# EAGLE library part ATXMEGA16A4U (library ihpcb-xmega)
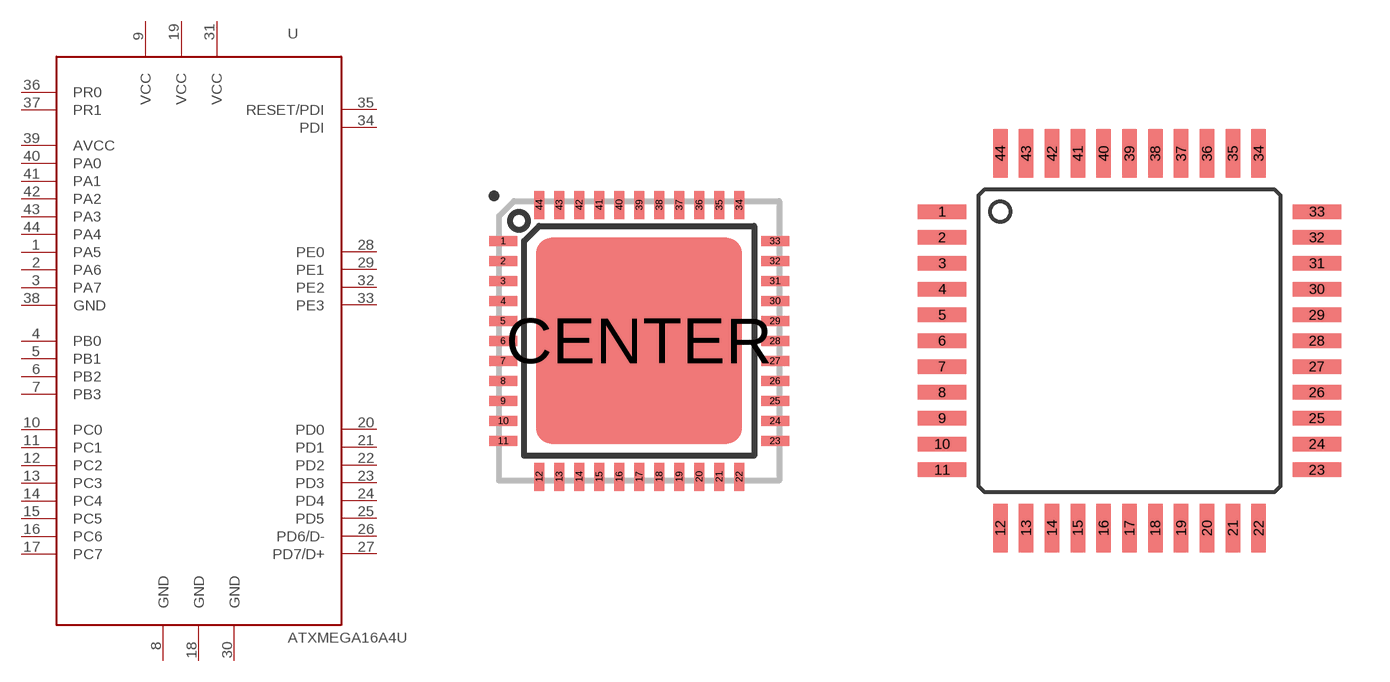
[diagram p0: symbol with the pads of VQFN-44; footprints VQFN-44, TQFP-44]

Designator prefix U

## ATXMEGA16A4U-MU  [VQFN-44]
1  PA5
2  PA6
3  PA7
4  PB0
5  PB1
6  PB2
7  PB3
8  GND
9  VCC
10  PC0
11  PC1
12  PC2
13  PC3
14  PC4
15  PC5
16  PC6
17  PC7
18  GND
19  VCC
20  PD0
21  PD1
22  PD2
23  PD3
24  PD4
25  PD5
26  PD6/D-
27  PD7/D+
28  PE0
29  PE1
30  GND
31  VCC
32  PE2
33  PE3
34  PDI
35  RESET/PDI
36  PR0
37  PR1
38  GND
39  AVCC
40  PA0
41  PA1
42  PA2
43  PA3
44  PA4

## ATXMEGA16A4U-AU  [TQFP-44]
Pads as for VQFN-44

## Footprint VQFN-44 (pad centres in mm)
smd 0.7 x 0.25: 1 -3.4,2.5; 2 -3.4,2; 3 -3.4,1.5; 4 -3.4,1; 5 -3.4,0.5; 6 -3.4,0; 7 -3.4,-0.5; 8 -3.4,-1; 9 -3.4,-1.5; 10 -3.4,-2; 11 -3.4,-2.5; 23 3.4,-2.5; 24 3.4,-2; 25 3.4,-1.5; 26 3.4,-1; 27 3.4,-0.5; 28 3.4,0; 29 3.4,0.5; 30 3.4,1; 31 3.4,1.5; 32 3.4,2; 33 3.4,2.5
smd 0.25 x 0.7: 12 -2.5,-3.4; 13 -2,-3.4; 14 -1.5,-3.4; 15 -1,-3.4; 16 -0.5,-3.4; 17 0,-3.4; 18 0.5,-3.4; 19 1,-3.4; 20 1.5,-3.4; 21 2,-3.4; 22 2.5,-3.4; 34 2.5,3.4; 35 2,3.4; 36 1.5,3.4; 37 1,3.4; 38 0.5,3.4; 39 0,3.4; 40 -0.5,3.4; 41 -1,3.4; 42 -1.5,3.4; 43 -2,3.4; 44 -2.5,3.4
smd 5.15 x 5.15: CENTER 0,0

## Footprint TQFP-44 (pad centres in mm)
smd 1.5 x 0.45: 1 -5.838,4.038; 2 -5.838,3.238; 3 -5.838,2.438; 4 -5.838,1.638; 5 -5.838,0.838; 6 -5.838,0.038; 7 -5.838,-0.762; 8 -5.838,-1.562; 9 -5.838,-2.362; 10 -5.838,-3.162; 11 -5.838,-3.962; 23 5.762,-3.962; 24 5.762,-3.162; 25 5.762,-2.362; 26 5.762,-1.562; 27 5.762,-0.762; 28 5.762,0.038; 29 5.762,0.838; 30 5.762,1.638; 31 5.762,2.438; 32 5.762,3.238; 33 5.762,4.038
smd 0.45 x 1.5: 12 -4.038,-5.762; 13 -3.238,-5.762; 14 -2.438,-5.762; 15 -1.638,-5.762; 16 -0.838,-5.762; 17 -0.038,-5.762; 18 0.762,-5.762; 19 1.562,-5.762; 20 2.362,-5.762; 21 3.162,-5.762; 22 3.962,-5.762; 34 3.962,5.838; 35 3.162,5.838; 36 2.362,5.838; 37 1.562,5.838; 38 0.762,5.838; 39 -0.038,5.838; 40 -0.838,5.838; 41 -1.638,5.838; 42 -2.438,5.838; 43 -3.238,5.838; 44 -4.038,5.838